# Altium footprint library TXU0304PWR.PcbLib: 1 footprints
Each footprint in its own frame and in the unit in brackets; x right, y up, seen from the top. Pads: shape width x height; smd on the part's side, far side on the other; paste and mask are expansions set on the pad; w line width, h text height; cw(c..) or ccw(c..) is an arc to the next point about the centre after c.
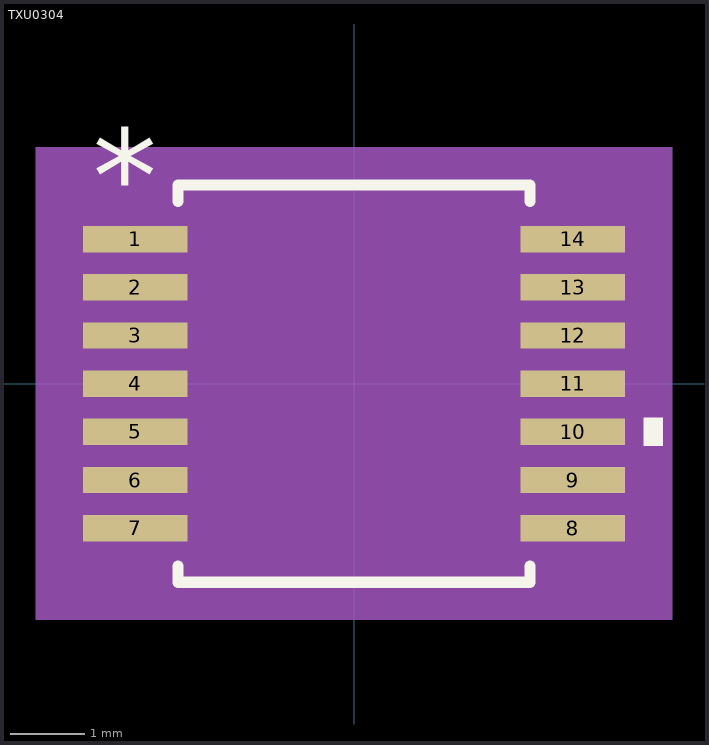
[diagram p0: the footprint, top view; thin cyan lines are the x and y axes]

## TXU0304 [mil]
pads (14):
  rect 55.5x14 smd paste+0 mask+0: 1(-116.25,76.77) 2(-116.25,51.18) 3(-116.25,25.59) 4(-116.25,0) 5(-116.25,-25.59) 6(-116.25,-51.18) 7(-116.25,-76.77) 8(116.25,-76.77) 9(116.25,-51.18) 10(116.25,-25.59) 11(116.25,0) 12(116.25,25.59) 13(116.25,51.18) 14(116.25,76.77)
Top Overlay:
  region: 154,-18.09 164,-18.09 164,-33.09 154,-33.09
  lines w6: -93.5,-96.87 -93.5,-105.5 93.5,-105.5 93.5,-96.87 ; -93.5,96.87 -93.5,105.5 93.5,105.5 93.5,96.87
  text "*" at -138.75,85.77 h50
Mechanical 5:
  region: 169,-125.5 -169,-125.5 -169,125.5 169,125.5
Mechanical 13:
  lines w0: -12,100.5 ccw(c0,100.5) 12,100.5
  lines w1: -130,-82.77 -88.5,-82.77 -88.5,-70.77 -130,-70.77 -130,-82.77 ; -130,-57.18 -88.5,-57.18 -88.5,-45.18 -130,-45.18 -130,-57.18 ; -130,-31.59 -88.5,-31.59 -88.5,-19.59 -130,-19.59 -130,-31.59 ; -130,-6 -88.5,-6 -88.5,6 -130,6 -130,-6 ; -130,19.59 -88.5,19.59 -88.5,31.59 -130,31.59 -130,19.59 ; -130,45.18 -88.5,45.18 -88.5,57.18 -130,57.18 -130,45.18 ; -130,70.77 -88.5,70.77 -88.5,82.77 -130,82.77 -130,70.77 ; -88.5,-100.5 -88.5,100.5 88.5,100.5 88.5,-100.5 -88.5,-100.5 ; 88.5,-82.77 130,-82.77 130,-70.77 88.5,-70.77 88.5,-82.77 ; 88.5,-57.18 130,-57.18 130,-45.18 88.5,-45.18 88.5,-57.18 ; 88.5,-31.59 130,-31.59 130,-19.59 88.5,-19.59 88.5,-31.59 ; 88.5,-6 130,-6 130,6 88.5,6 88.5,-6 ; 88.5,19.59 130,19.59 130,31.59 88.5,31.59 88.5,19.59 ; 88.5,45.18 130,45.18 130,57.18 88.5,57.18 88.5,45.18 ; 88.5,70.77 130,70.77 130,82.77 88.5,82.77 88.5,70.77
  text "*" at -86,47.5 h50
Mechanical 15:
  region: -98.5,-93.77 -154,-93.77 -154,93.77 -98.5,93.77 -98.5,110.5 98.5,110.5 98.5,93.77 154,93.77 154,-93.77 98.5,-93.77 98.5,-110.5 -98.5,-110.5
  lines w6: -154,-93.77 -98.5,-93.77 -98.5,-110.5 98.5,-110.5 98.5,-93.77 154,-93.77 154,93.77 98.5,93.77 98.5,110.5 -98.5,110.5 -98.5,93.77 -154,93.77 -154,-93.77
3D body "TSSOP14_PW_TEX.step": height 47.09, standoff 0, extent -130,-100.51 130,100.51